# EAGLE library part LTC3454 (library balto)
1A Synchronous Buck-BoostHigh Current LED Driver
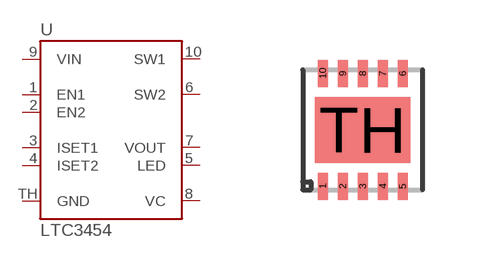
[diagram p59: symbol with the pads of DFN10-3X3; footprint DFN10-3X3]

Designator prefix U

## LTC3454  [DFN10-3X3]
1  EN1
2  EN2
3  ISET1
4  ISET2
5  LED
6  SW2
7  VOUT
8  VC
9  VIN
10  SW1
TH  GND

## Footprint DFN10-3X3 (pad centres in mm)
3x3mm DFN-10
smd 0.25 x 0.675: 1 -1,-1.413; 2 -0.5,-1.413; 3 0,-1.413; 4 0.5,-1.413; 5 1,-1.413; 6 1,1.413; 7 0.5,1.413; 8 0,1.413; 9 -0.5,1.413; 10 -1,1.413
smd 2.38 x 1.65: TH 0,0